# Altium footprint library Flyback Converters.PcbLib: 1 footprints
Each footprint in its own frame and in the unit in brackets; x right, y up, seen from the top. Pads: shape width x height; smd on the part's side, far side on the other; paste and mask are expansions set on the pad; w line width, h text height; cw(c..) or ccw(c..) is an arc to the next point about the centre after c.
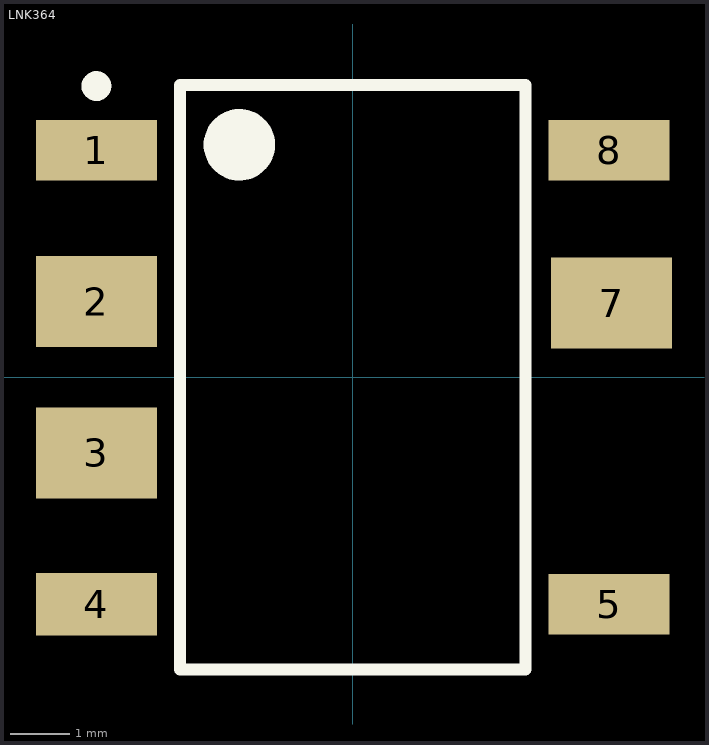
[diagram p0: the footprint, top view; thin cyan lines are the x and y axes]

## LNK364 [mil] "Converter Offline Flyback Topology 132kHz SMD-8B 700V max input"
height 144.88
pads (7):
  rect 80x40 smd: 1(-169.29,150) 5(169.29,-150) 8(169.29,150)
  rect 80x60 smd: 2(-169.29,50) 3(-169.29,-50) 7(171,49)
  rect 80x41.34 smd: 4(-169.29,-150)
Top Overlay:
  circle w9.84: c-169.29,192.32 r4.92
  circle w23.62: c-74.8,153.54 r11.81
  lines w7.87: -114.17,-192.91 -114.17,192.91 114.17,192.91 114.17,-192.91 -114.17,-192.91
3D body "SMD-8B.step": height 157.09, standoff -0.39, extent -194.83,-194.9 191,192.9